# Altium schematic symbol library SCHOTTKY-DIODEDO35-7.Schlib: 1 symbol
Pins are listed as number, name and electrical type; pins without a type are passive.

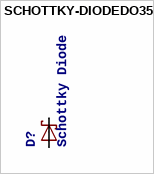
[diagram p0: symbol SCHOTTKY-DIODEDO35-7]

## SCHOTTKY-DIODEDO35-7
designator D?, comment Schottky Diode
SPICEMODEL: NONE; SPICEPREFIX: D; SPICETYPE: diode
footprint DIODE_DO35-7
pins: A C, C A